# Altium integrated library CAP-CSGP_rev15b.intlib: 820 symbols (part 5 of 9)
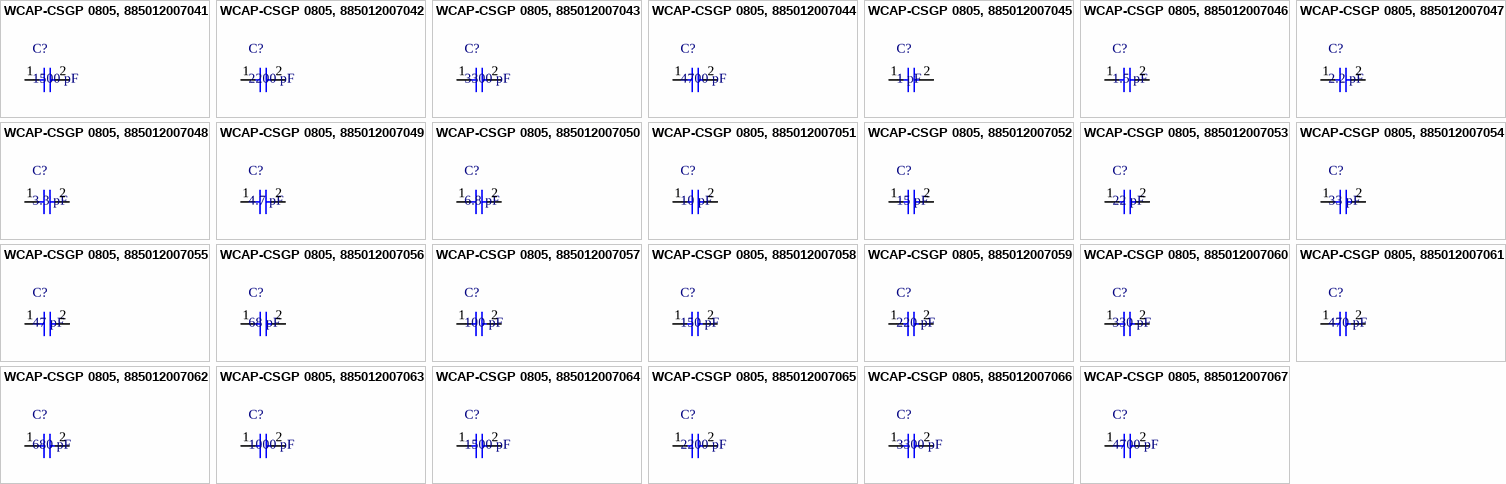
[diagram p32: symbols WCAP-CSGP 0805, 885012007041 to WCAP-CSGP 0805, 885012007067]

## WCAP-CSGP 0805, 885012007061
designator C?, comment 470 pF
WCAP-CSGP MLCC, NP0, 0805, 470 pF,50Vdc; Manufacturer: Wurth Elektronik; partNo: 885012007061; E-mail: libraries@we-online.com; ComponentLink1Description: Manufacturer; ComponentLink1URL: http://www.we-online.com; ComponentLink2Description: Datasheet; ComponentLink2URL: http://katalog.we-online.de/pbs/datasheet/885012007061.pdf; Created by: Karrer Zheng; Created Date: 3/9/2015; Capacitance: 470 pF
footprint WCAP-CSGP 0805, H=0.8mm
pins: 1, 2

## WCAP-CSGP 0805, 885012007062
designator C?, comment 680 pF
WCAP-CSGP MLCC, NP0, 0805, 680 pF,50Vdc; Manufacturer: Wurth Elektronik; partNo: 885012007062; E-mail: libraries@we-online.com; ComponentLink1Description: Manufacturer; ComponentLink1URL: http://www.we-online.com; ComponentLink2Description: Datasheet; ComponentLink2URL: http://katalog.we-online.de/pbs/datasheet/885012007062.pdf; Created by: Karrer Zheng; Created Date: 3/9/2015; Capacitance: 680 pF
footprint WCAP-CSGP 0805, H=0.8mm
pins: 1, 2

## WCAP-CSGP 0805, 885012007063
designator C?, comment 1000 pF
WCAP-CSGP MLCC, NP0, 0805, 1000 pF,50Vdc; Manufacturer: Wurth Elektronik; partNo: 885012007063; E-mail: libraries@we-online.com; ComponentLink1Description: Manufacturer; ComponentLink1URL: http://www.we-online.com; ComponentLink2Description: Datasheet; ComponentLink2URL: http://katalog.we-online.de/pbs/datasheet/885012007063.pdf; Created by: Karrer Zheng; Created Date: 3/9/2015; Capacitance: 1000 pF
footprint WCAP-CSGP 0805, H=0.8mm
pins: 1, 2

## WCAP-CSGP 0805, 885012007064
designator C?, comment 1500 pF
WCAP-CSGP MLCC, NP0, 0805, 1500 pF,50Vdc; Manufacturer: Wurth Elektronik; partNo: 885012007064; E-mail: libraries@we-online.com; ComponentLink1Description: Manufacturer; ComponentLink1URL: http://www.we-online.com; ComponentLink2Description: Datasheet; ComponentLink2URL: http://katalog.we-online.de/pbs/datasheet/885012007064.pdf; Created by: Karrer Zheng; Created Date: 3/9/2015; Capacitance: 1500 pF
footprint WCAP-CSGP 0805, H=0.8mm
pins: 1, 2

## WCAP-CSGP 0805, 885012007065
designator C?, comment 2200 pF
WCAP-CSGP MLCC, NP0, 0805, 2200 pF,50Vdc; Manufacturer: Wurth Elektronik; partNo: 885012007065; E-mail: libraries@we-online.com; ComponentLink1Description: Manufacturer; ComponentLink1URL: http://www.we-online.com; ComponentLink2Description: Datasheet; ComponentLink2URL: http://katalog.we-online.de/pbs/datasheet/885012007065.pdf; Created by: Karrer Zheng; Created Date: 3/9/2015; Capacitance: 2200 pF
footprint WCAP-CSGP 0805, H=0.8mm
pins: 1, 2

## WCAP-CSGP 0805, 885012007066
designator C?, comment 3300 pF
WCAP-CSGP MLCC, NP0, 0805, 3300 pF,50Vdc; Manufacturer: Wurth Elektronik; partNo: 885012007066; E-mail: libraries@we-online.com; ComponentLink1Description: Manufacturer; ComponentLink1URL: http://www.we-online.com; ComponentLink2Description: Datasheet; ComponentLink2URL: http://katalog.we-online.de/pbs/datasheet/885012007066.pdf; Created by: Karrer Zheng; Created Date: 3/9/2015; Capacitance: 3300 pF
footprint WCAP-CSGP 0805, H=1.25mm
pins: 1, 2

## WCAP-CSGP 0805, 885012007067
designator C?, comment 4700 pF
WCAP-CSGP MLCC, NP0, 0805, 4700 pF,50Vdc; Manufacturer: Wurth Elektronik; partNo: 885012007067; E-mail: libraries@we-online.com; ComponentLink1Description: Manufacturer; ComponentLink1URL: http://www.we-online.com; ComponentLink2Description: Datasheet; ComponentLink2URL: http://katalog.we-online.de/pbs/datasheet/885012007067.pdf; Created by: Karrer Zheng; Created Date: 3/9/2015; Capacitance: 4700 pF
footprint WCAP-CSGP 0805, H=1.25mm
pins: 1, 2


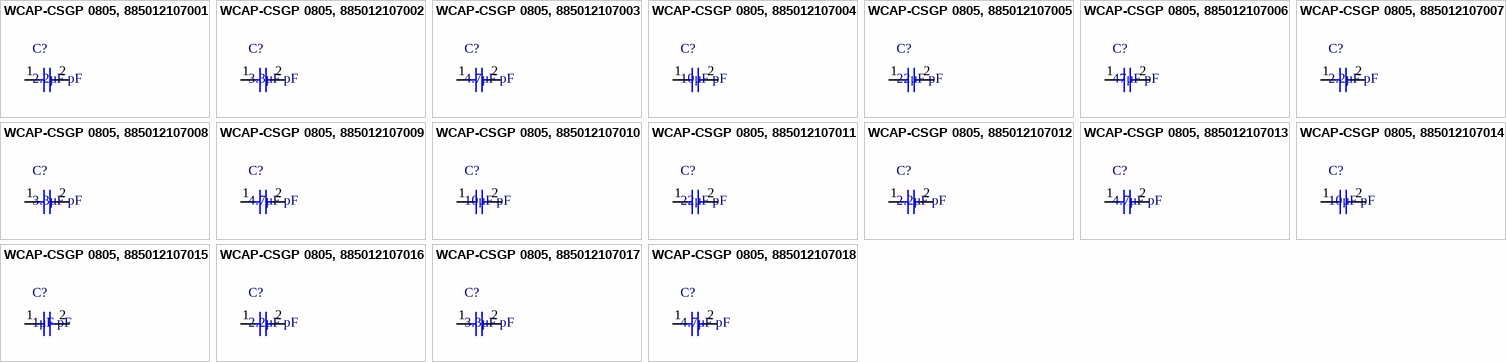
[diagram p13: symbols WCAP-CSGP 0805, 885012107001 to WCAP-CSGP 0805, 885012107018]

## WCAP-CSGP 0805, 885012107001
designator C?, comment 2.2μF pF
WCAP-CSGP MLCC, X5R, 0805, 2.2μF pF,6.3Vdc; Manufacturer: Wurth Elektronik; partNo: 885012107001; E-mail: libraries@we-online.com; ComponentLink1Description: Manufacturer; ComponentLink1URL: http://www.we-online.com; ComponentLink2Description: Datasheet; ComponentLink2URL: http://katalog.we-online.de/pbs/datasheet/885012107001.pdf; Created by: Karrer Zheng; Created Date: 3/9/2015; Capacitance: 2.2μF pF
footprint WCAP-CSGP 0805, H=1.25mm
pins: 1, 2

## WCAP-CSGP 0805, 885012107002
designator C?, comment 3.3μF pF
WCAP-CSGP MLCC, X5R, 0805, 3.3μF pF,6.3Vdc; Manufacturer: Wurth Elektronik; partNo: 885012107002; E-mail: libraries@we-online.com; ComponentLink1Description: Manufacturer; ComponentLink1URL: http://www.we-online.com; ComponentLink2Description: Datasheet; ComponentLink2URL: http://katalog.we-online.de/pbs/datasheet/885012107002.pdf; Created by: Karrer Zheng; Created Date: 3/9/2015; Capacitance: 3.3μF pF
footprint WCAP-CSGP 0805, H=1.25mm
pins: 1, 2

## WCAP-CSGP 0805, 885012107003
designator C?, comment 4.7μF pF
WCAP-CSGP MLCC, X5R, 0805, 4.7μF pF,6.3Vdc; Manufacturer: Wurth Elektronik; partNo: 885012107003; E-mail: libraries@we-online.com; ComponentLink1Description: Manufacturer; ComponentLink1URL: http://www.we-online.com; ComponentLink2Description: Datasheet; ComponentLink2URL: http://katalog.we-online.de/pbs/datasheet/885012107003.pdf; Created by: Karrer Zheng; Created Date: 3/9/2015; Capacitance: 4.7μF pF
footprint WCAP-CSGP 0805, H=1.25mm
pins: 1, 2

## WCAP-CSGP 0805, 885012107004
designator C?, comment 10μF pF
WCAP-CSGP MLCC, X5R, 0805, 10μF pF,6.3Vdc; Manufacturer: Wurth Elektronik; partNo: 885012107004; E-mail: libraries@we-online.com; ComponentLink1Description: Manufacturer; ComponentLink1URL: http://www.we-online.com; ComponentLink2Description: Datasheet; ComponentLink2URL: http://katalog.we-online.de/pbs/datasheet/885012107004.pdf; Created by: Karrer Zheng; Created Date: 3/9/2015; Capacitance: 10μF pF
footprint WCAP-CSGP 0805, H=1.25mm
pins: 1, 2

## WCAP-CSGP 0805, 885012107005
designator C?, comment 22μF pF
WCAP-CSGP MLCC, X5R, 0805, 22μF pF,6.3Vdc; Manufacturer: Wurth Elektronik; partNo: 885012107005; E-mail: libraries@we-online.com; ComponentLink1Description: Manufacturer; ComponentLink1URL: http://www.we-online.com; ComponentLink2Description: Datasheet; ComponentLink2URL: http://katalog.we-online.de/pbs/datasheet/885012107005.pdf; Created by: Karrer Zheng; Created Date: 3/9/2015; Capacitance: 22μF pF
footprint WCAP-CSGP 0805, H=1.25mm
pins: 1, 2

## WCAP-CSGP 0805, 885012107006
designator C?, comment 47μF pF
WCAP-CSGP MLCC, X5R, 0805, 47μF pF,6.3Vdc; Manufacturer: Wurth Elektronik; partNo: 885012107006; E-mail: libraries@we-online.com; ComponentLink1Description: Manufacturer; ComponentLink1URL: http://www.we-online.com; ComponentLink2Description: Datasheet; ComponentLink2URL: http://katalog.we-online.de/pbs/datasheet/885012107006.pdf; Created by: Karrer Zheng; Created Date: 3/9/2015; Capacitance: 47μF pF
footprint WCAP-CSGP 0805, H=1.25mm
pins: 1, 2

## WCAP-CSGP 0805, 885012107007
designator C?, comment 2.2μF pF
WCAP-CSGP MLCC, X5R, 0805, 2.2μF pF,10Vdc; Manufacturer: Wurth Elektronik; partNo: 885012107007; E-mail: libraries@we-online.com; ComponentLink1Description: Manufacturer; ComponentLink1URL: http://www.we-online.com; ComponentLink2Description: Datasheet; ComponentLink2URL: http://katalog.we-online.de/pbs/datasheet/885012107007.pdf; Created by: Karrer Zheng; Created Date: 3/9/2015; Capacitance: 2.2μF pF
footprint WCAP-CSGP 0805, H=1.25mm
pins: 1, 2

## WCAP-CSGP 0805, 885012107008
designator C?, comment 3.3μF pF
WCAP-CSGP MLCC, X5R, 0805, 3.3μF pF,10Vdc; Manufacturer: Wurth Elektronik; partNo: 885012107008; E-mail: libraries@we-online.com; ComponentLink1Description: Manufacturer; ComponentLink1URL: http://www.we-online.com; ComponentLink2Description: Datasheet; ComponentLink2URL: http://katalog.we-online.de/pbs/datasheet/885012107008.pdf; Created by: Karrer Zheng; Created Date: 3/9/2015; Capacitance: 3.3μF pF
footprint WCAP-CSGP 0805, H=1.25mm
pins: 1, 2

## WCAP-CSGP 0805, 885012107009
designator C?, comment 4.7μF pF
WCAP-CSGP MLCC, X5R, 0805, 4.7μF pF,10Vdc; Manufacturer: Wurth Elektronik; partNo: 885012107009; E-mail: libraries@we-online.com; ComponentLink1Description: Manufacturer; ComponentLink1URL: http://www.we-online.com; ComponentLink2Description: Datasheet; ComponentLink2URL: http://katalog.we-online.de/pbs/datasheet/885012107009.pdf; Created by: Karrer Zheng; Created Date: 3/9/2015; Capacitance: 4.7μF pF
footprint WCAP-CSGP 0805, H=1.25mm
pins: 1, 2

## WCAP-CSGP 0805, 885012107010
designator C?, comment 10μF pF
WCAP-CSGP MLCC, X5R, 0805, 10μF pF,10Vdc; Manufacturer: Wurth Elektronik; partNo: 885012107010; E-mail: libraries@we-online.com; ComponentLink1Description: Manufacturer; ComponentLink1URL: http://www.we-online.com; ComponentLink2Description: Datasheet; ComponentLink2URL: http://katalog.we-online.de/pbs/datasheet/885012107010.pdf; Created by: Karrer Zheng; Created Date: 3/9/2015; Capacitance: 10μF pF
footprint WCAP-CSGP 0805, H=1.25mm
pins: 1, 2

## WCAP-CSGP 0805, 885012107011
designator C?, comment 22μF pF
WCAP-CSGP MLCC, X5R, 0805, 22μF pF,10Vdc; Manufacturer: Wurth Elektronik; partNo: 885012107011; E-mail: libraries@we-online.com; ComponentLink1Description: Manufacturer; ComponentLink1URL: http://www.we-online.com; ComponentLink2Description: Datasheet; ComponentLink2URL: http://katalog.we-online.de/pbs/datasheet/885012107011.pdf; Created by: Karrer Zheng; Created Date: 3/9/2015; Capacitance: 22μF pF
footprint WCAP-CSGP 0805, H=1.25mm
pins: 1, 2

## WCAP-CSGP 0805, 885012107012
designator C?, comment 2.2μF pF
WCAP-CSGP MLCC, X5R, 0805, 2.2μF pF,16Vdc; Manufacturer: Wurth Elektronik; partNo: 885012107012; E-mail: libraries@we-online.com; ComponentLink1Description: Manufacturer; ComponentLink1URL: http://www.we-online.com; ComponentLink2Description: Datasheet; ComponentLink2URL: http://katalog.we-online.de/pbs/datasheet/885012107012.pdf; Created by: Karrer Zheng; Created Date: 3/9/2015; Capacitance: 2.2μF pF
footprint WCAP-CSGP 0805, H=1.25mm
pins: 1, 2

## WCAP-CSGP 0805, 885012107013
designator C?, comment 4.7μF pF
WCAP-CSGP MLCC, X5R, 0805, 4.7μF pF,16Vdc; Manufacturer: Wurth Elektronik; partNo: 885012107013; E-mail: libraries@we-online.com; ComponentLink1Description: Manufacturer; ComponentLink1URL: http://www.we-online.com; ComponentLink2Description: Datasheet; ComponentLink2URL: http://katalog.we-online.de/pbs/datasheet/885012107013.pdf; Created by: Karrer Zheng; Created Date: 3/9/2015; Capacitance: 4.7μF pF
footprint WCAP-CSGP 0805, H=1.25mm
pins: 1, 2

## WCAP-CSGP 0805, 885012107014
designator C?, comment 10μF pF
WCAP-CSGP MLCC, X5R, 0805, 10μF pF,16Vdc; Manufacturer: Wurth Elektronik; partNo: 885012107014; E-mail: libraries@we-online.com; ComponentLink1Description: Manufacturer; ComponentLink1URL: http://www.we-online.com; ComponentLink2Description: Datasheet; ComponentLink2URL: http://katalog.we-online.de/pbs/datasheet/885012107014.pdf; Created by: Karrer Zheng; Created Date: 3/9/2015; Capacitance: 10μF pF
footprint WCAP-CSGP 0805, H=1.25mm
pins: 1, 2

## WCAP-CSGP 0805, 885012107015
designator C?, comment 1μF pF
WCAP-CSGP MLCC, X5R, 0805, 1μF pF,25Vdc; Manufacturer: Wurth Elektronik; partNo: 885012107015; E-mail: libraries@we-online.com; ComponentLink1Description: Manufacturer; ComponentLink1URL: http://www.we-online.com; ComponentLink2Description: Datasheet; ComponentLink2URL: http://katalog.we-online.de/pbs/datasheet/885012107015.pdf; Created by: Karrer Zheng; Created Date: 3/9/2015; Capacitance: 1μF pF
footprint WCAP-CSGP 0805, H=1.25mm
pins: 1, 2

## WCAP-CSGP 0805, 885012107016
designator C?, comment 2.2μF pF
WCAP-CSGP MLCC, X5R, 0805, 2.2μF pF,25Vdc; Manufacturer: Wurth Elektronik; partNo: 885012107016; E-mail: libraries@we-online.com; ComponentLink1Description: Manufacturer; ComponentLink1URL: http://www.we-online.com; ComponentLink2Description: Datasheet; ComponentLink2URL: http://katalog.we-online.de/pbs/datasheet/885012107016.pdf; Created by: Karrer Zheng; Created Date: 3/9/2015; Capacitance: 2.2μF pF
footprint WCAP-CSGP 0805, H=1.25mm
pins: 1, 2

## WCAP-CSGP 0805, 885012107017
designator C?, comment 3.3μF pF
WCAP-CSGP MLCC, X5R, 0805, 3.3μF pF,25Vdc; Manufacturer: Wurth Elektronik; partNo: 885012107017; E-mail: libraries@we-online.com; ComponentLink1Description: Manufacturer; ComponentLink1URL: http://www.we-online.com; ComponentLink2Description: Datasheet; ComponentLink2URL: http://katalog.we-online.de/pbs/datasheet/885012107017.pdf; Created by: Karrer Zheng; Created Date: 3/9/2015; Capacitance: 3.3μF pF
footprint WCAP-CSGP 0805, H=1.25mm
pins: 1, 2

## WCAP-CSGP 0805, 885012107018
designator C?, comment 4.7μF pF
WCAP-CSGP MLCC, X5R, 0805, 4.7μF pF,25Vdc; Manufacturer: Wurth Elektronik; partNo: 885012107018; E-mail: libraries@we-online.com; ComponentLink1Description: Manufacturer; ComponentLink1URL: http://www.we-online.com; ComponentLink2Description: Datasheet; ComponentLink2URL: http://katalog.we-online.de/pbs/datasheet/885012107018.pdf; Created by: Karrer Zheng; Created Date: 3/9/2015; Capacitance: 4.7μF pF
footprint WCAP-CSGP 0805, H=1.25mm
pins: 1, 2


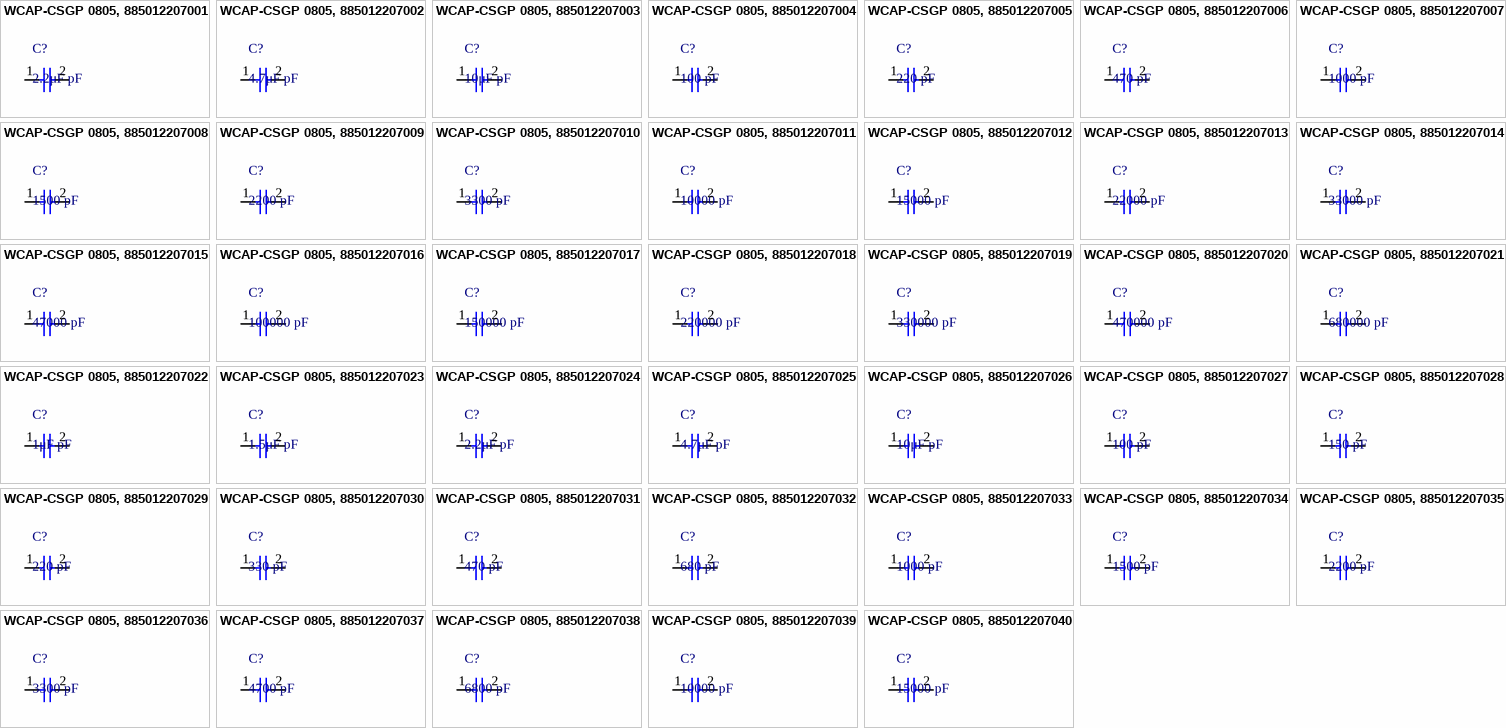
[diagram p14: symbols WCAP-CSGP 0805, 885012207001 to WCAP-CSGP 0805, 885012207040]

## WCAP-CSGP 0805, 885012207001
designator C?, comment 2.2μF pF
WCAP-CSGP MLCC, X7R, 0805, 2.2μF pF,6.3Vdc; Manufacturer: Wurth Elektronik; partNo: 885012207001; E-mail: libraries@we-online.com; ComponentLink1Description: Manufacturer; ComponentLink1URL: http://www.we-online.com; ComponentLink2Description: Datasheet; ComponentLink2URL: http://katalog.we-online.de/pbs/datasheet/885012207001.pdf; Created by: Karrer Zheng; Created Date: 3/9/2015; Capacitance: 2.2μF pF
footprint WCAP-CSGP 0805, H=1.25mm
pins: 1, 2

## WCAP-CSGP 0805, 885012207002
designator C?, comment 4.7μF pF
WCAP-CSGP MLCC, X7R, 0805, 4.7μF pF,6.3Vdc; Manufacturer: Wurth Elektronik; partNo: 885012207002; E-mail: libraries@we-online.com; ComponentLink1Description: Manufacturer; ComponentLink1URL: http://www.we-online.com; ComponentLink2Description: Datasheet; ComponentLink2URL: http://katalog.we-online.de/pbs/datasheet/885012207002.pdf; Created by: Karrer Zheng; Created Date: 3/9/2015; Capacitance: 4.7μF pF
footprint WCAP-CSGP 0805, H=1.25mm
pins: 1, 2

## WCAP-CSGP 0805, 885012207003
designator C?, comment 10μF pF
WCAP-CSGP MLCC, X7R, 0805, 10μF pF,6.3Vdc; Manufacturer: Wurth Elektronik; partNo: 885012207003; E-mail: libraries@we-online.com; ComponentLink1Description: Manufacturer; ComponentLink1URL: http://www.we-online.com; ComponentLink2Description: Datasheet; ComponentLink2URL: http://katalog.we-online.de/pbs/datasheet/885012207003.pdf; Created by: Karrer Zheng; Created Date: 3/9/2015; Capacitance: 10μF pF
footprint WCAP-CSGP 0805, H=1.25mm
pins: 1, 2

## WCAP-CSGP 0805, 885012207004
designator C?, comment 100 pF
WCAP-CSGP MLCC, X7R, 0805, 100 pF,10Vdc; Manufacturer: Wurth Elektronik; partNo: 885012207004; E-mail: libraries@we-online.com; ComponentLink1Description: Manufacturer; ComponentLink1URL: http://www.we-online.com; ComponentLink2Description: Datasheet; ComponentLink2URL: http://katalog.we-online.de/pbs/datasheet/885012207004.pdf; Created by: Karrer Zheng; Created Date: 3/9/2015; Capacitance: 100 pF
footprint WCAP-CSGP 0805, H=0.8mm
pins: 1, 2

## WCAP-CSGP 0805, 885012207005
designator C?, comment 220 pF
WCAP-CSGP MLCC, X7R, 0805, 220 pF,10Vdc; Manufacturer: Wurth Elektronik; partNo: 885012207005; E-mail: libraries@we-online.com; ComponentLink1Description: Manufacturer; ComponentLink1URL: http://www.we-online.com; ComponentLink2Description: Datasheet; ComponentLink2URL: http://katalog.we-online.de/pbs/datasheet/885012207005.pdf; Created by: Karrer Zheng; Created Date: 3/9/2015; Capacitance: 220 pF
footprint WCAP-CSGP 0805, H=0.8mm
pins: 1, 2

## WCAP-CSGP 0805, 885012207006
designator C?, comment 470 pF
WCAP-CSGP MLCC, X7R, 0805, 470 pF,10Vdc; Manufacturer: Wurth Elektronik; partNo: 885012207006; E-mail: libraries@we-online.com; ComponentLink1Description: Manufacturer; ComponentLink1URL: http://www.we-online.com; ComponentLink2Description: Datasheet; ComponentLink2URL: http://katalog.we-online.de/pbs/datasheet/885012207006.pdf; Created by: Karrer Zheng; Created Date: 3/9/2015; Capacitance: 470 pF
footprint WCAP-CSGP 0805, H=0.8mm
pins: 1, 2

## WCAP-CSGP 0805, 885012207007
designator C?, comment 1000 pF
WCAP-CSGP MLCC, X7R, 0805, 1000 pF,10Vdc; Manufacturer: Wurth Elektronik; partNo: 885012207007; E-mail: libraries@we-online.com; ComponentLink1Description: Manufacturer; ComponentLink1URL: http://www.we-online.com; ComponentLink2Description: Datasheet; ComponentLink2URL: http://katalog.we-online.de/pbs/datasheet/885012207007.pdf; Created by: Karrer Zheng; Created Date: 3/9/2015; Capacitance: 1000 pF
footprint WCAP-CSGP 0805, H=0.8mm
pins: 1, 2

## WCAP-CSGP 0805, 885012207008
designator C?, comment 1500 pF
WCAP-CSGP MLCC, X7R, 0805, 1500 pF,10Vdc; Manufacturer: Wurth Elektronik; partNo: 885012207008; E-mail: libraries@we-online.com; ComponentLink1Description: Manufacturer; ComponentLink1URL: http://www.we-online.com; ComponentLink2Description: Datasheet; ComponentLink2URL: http://katalog.we-online.de/pbs/datasheet/885012207008.pdf; Created by: Karrer Zheng; Created Date: 3/9/2015; Capacitance: 1500 pF
footprint WCAP-CSGP 0805, H=0.8mm
pins: 1, 2

## WCAP-CSGP 0805, 885012207009
designator C?, comment 2200 pF
WCAP-CSGP MLCC, X7R, 0805, 2200 pF,10Vdc; Manufacturer: Wurth Elektronik; partNo: 885012207009; E-mail: libraries@we-online.com; ComponentLink1Description: Manufacturer; ComponentLink1URL: http://www.we-online.com; ComponentLink2Description: Datasheet; ComponentLink2URL: http://katalog.we-online.de/pbs/datasheet/885012207009.pdf; Created by: Karrer Zheng; Created Date: 3/9/2015; Capacitance: 2200 pF
footprint WCAP-CSGP 0805, H=0.8mm
pins: 1, 2

## WCAP-CSGP 0805, 885012207010
designator C?, comment 3300 pF
WCAP-CSGP MLCC, X7R, 0805, 3300 pF,10Vdc; Manufacturer: Wurth Elektronik; partNo: 885012207010; E-mail: libraries@we-online.com; ComponentLink1Description: Manufacturer; ComponentLink1URL: http://www.we-online.com; ComponentLink2Description: Datasheet; ComponentLink2URL: http://katalog.we-online.de/pbs/datasheet/885012207010.pdf; Created by: Karrer Zheng; Created Date: 3/9/2015; Capacitance: 3300 pF
footprint WCAP-CSGP 0805, H=0.8mm
pins: 1, 2

## WCAP-CSGP 0805, 885012207011
designator C?, comment 10000 pF
WCAP-CSGP MLCC, X7R, 0805, 10000 pF,10Vdc; Manufacturer: Wurth Elektronik; partNo: 885012207011; E-mail: libraries@we-online.com; ComponentLink1Description: Manufacturer; ComponentLink1URL: http://www.we-online.com; ComponentLink2Description: Datasheet; ComponentLink2URL: http://katalog.we-online.de/pbs/datasheet/885012207011.pdf; Created by: Karrer Zheng; Created Date: 3/9/2015; Capacitance: 10000 pF
footprint WCAP-CSGP 0805, H=0.8mm
pins: 1, 2

## WCAP-CSGP 0805, 885012207012
designator C?, comment 15000 pF
WCAP-CSGP MLCC, X7R, 0805, 15000 pF,10Vdc; Manufacturer: Wurth Elektronik; partNo: 885012207012; E-mail: libraries@we-online.com; ComponentLink1Description: Manufacturer; ComponentLink1URL: http://www.we-online.com; ComponentLink2Description: Datasheet; ComponentLink2URL: http://katalog.we-online.de/pbs/datasheet/885012207012.pdf; Created by: Karrer Zheng; Created Date: 3/9/2015; Capacitance: 15000 pF
footprint WCAP-CSGP 0805, H=0.8mm
pins: 1, 2

## WCAP-CSGP 0805, 885012207013
designator C?, comment 22000 pF
WCAP-CSGP MLCC, X7R, 0805, 22000 pF,10Vdc; Manufacturer: Wurth Elektronik; partNo: 885012207013; E-mail: libraries@we-online.com; ComponentLink1Description: Manufacturer; ComponentLink1URL: http://www.we-online.com; ComponentLink2Description: Datasheet; ComponentLink2URL: http://katalog.we-online.de/pbs/datasheet/885012207013.pdf; Created by: Karrer Zheng; Created Date: 3/9/2015; Capacitance: 22000 pF
footprint WCAP-CSGP 0805, H=0.8mm
pins: 1, 2

## WCAP-CSGP 0805, 885012207014
designator C?, comment 33000 pF
WCAP-CSGP MLCC, X7R, 0805, 33000 pF,10Vdc; Manufacturer: Wurth Elektronik; partNo: 885012207014; E-mail: libraries@we-online.com; ComponentLink1Description: Manufacturer; ComponentLink1URL: http://www.we-online.com; ComponentLink2Description: Datasheet; ComponentLink2URL: http://katalog.we-online.de/pbs/datasheet/885012207014.pdf; Created by: Karrer Zheng; Created Date: 3/9/2015; Capacitance: 33000 pF
footprint WCAP-CSGP 0805, H=0.8mm
pins: 1, 2

## WCAP-CSGP 0805, 885012207015
designator C?, comment 47000 pF
WCAP-CSGP MLCC, X7R, 0805, 47000 pF,10Vdc; Manufacturer: Wurth Elektronik; partNo: 885012207015; E-mail: libraries@we-online.com; ComponentLink1Description: Manufacturer; ComponentLink1URL: http://www.we-online.com; ComponentLink2Description: Datasheet; ComponentLink2URL: http://katalog.we-online.de/pbs/datasheet/885012207015.pdf; Created by: Karrer Zheng; Created Date: 3/9/2015; Capacitance: 47000 pF
footprint WCAP-CSGP 0805, H=0.8mm
pins: 1, 2

## WCAP-CSGP 0805, 885012207016
designator C?, comment 100000 pF
WCAP-CSGP MLCC, X7R, 0805, 100000 pF,10Vdc; Manufacturer: Wurth Elektronik; partNo: 885012207016; E-mail: libraries@we-online.com; ComponentLink1Description: Manufacturer; ComponentLink1URL: http://www.we-online.com; ComponentLink2Description: Datasheet; ComponentLink2URL: http://katalog.we-online.de/pbs/datasheet/885012207016.pdf; Created by: Karrer Zheng; Created Date: 3/9/2015; Capacitance: 100000 pF
footprint WCAP-CSGP 0805, H=0.8mm
pins: 1, 2

## WCAP-CSGP 0805, 885012207017
designator C?, comment 150000 pF
WCAP-CSGP MLCC, X7R, 0805, 150000 pF,10Vdc; Manufacturer: Wurth Elektronik; partNo: 885012207017; E-mail: libraries@we-online.com; ComponentLink1Description: Manufacturer; ComponentLink1URL: http://www.we-online.com; ComponentLink2Description: Datasheet; ComponentLink2URL: http://katalog.we-online.de/pbs/datasheet/885012207017.pdf; Created by: Karrer Zheng; Created Date: 3/9/2015; Capacitance: 150000 pF
footprint WCAP-CSGP 0805, H=1.25mm
pins: 1, 2

## WCAP-CSGP 0805, 885012207018
designator C?, comment 220000 pF
WCAP-CSGP MLCC, X7R, 0805, 220000 pF,10Vdc; Manufacturer: Wurth Elektronik; partNo: 885012207018; E-mail: libraries@we-online.com; ComponentLink1Description: Manufacturer; ComponentLink1URL: http://www.we-online.com; ComponentLink2Description: Datasheet; ComponentLink2URL: http://katalog.we-online.de/pbs/datasheet/885012207018.pdf; Created by: Karrer Zheng; Created Date: 3/9/2015; Capacitance: 220000 pF
footprint WCAP-CSGP 0805, H=1.25mm
pins: 1, 2

## WCAP-CSGP 0805, 885012207019
designator C?, comment 330000 pF
WCAP-CSGP MLCC, X7R, 0805, 330000 pF,10Vdc; Manufacturer: Wurth Elektronik; partNo: 885012207019; E-mail: libraries@we-online.com; ComponentLink1Description: Manufacturer; ComponentLink1URL: http://www.we-online.com; ComponentLink2Description: Datasheet; ComponentLink2URL: http://katalog.we-online.de/pbs/datasheet/885012207019.pdf; Created by: Karrer Zheng; Created Date: 3/9/2015; Capacitance: 330000 pF
footprint WCAP-CSGP 0805, H=1.25mm
pins: 1, 2

## WCAP-CSGP 0805, 885012207020
designator C?, comment 470000 pF
WCAP-CSGP MLCC, X7R, 0805, 470000 pF,10Vdc; Manufacturer: Wurth Elektronik; partNo: 885012207020; E-mail: libraries@we-online.com; ComponentLink1Description: Manufacturer; ComponentLink1URL: http://www.we-online.com; ComponentLink2Description: Datasheet; ComponentLink2URL: http://katalog.we-online.de/pbs/datasheet/885012207020.pdf; Created by: Karrer Zheng; Created Date: 3/9/2015; Capacitance: 470000 pF
footprint WCAP-CSGP 0805, H=1.25mm
pins: 1, 2

## WCAP-CSGP 0805, 885012207021
designator C?, comment 680000 pF
WCAP-CSGP MLCC, X7R, 0805, 680000 pF,10Vdc; Manufacturer: Wurth Elektronik; partNo: 885012207021; E-mail: libraries@we-online.com; ComponentLink1Description: Manufacturer; ComponentLink1URL: http://www.we-online.com; ComponentLink2Description: Datasheet; ComponentLink2URL: http://katalog.we-online.de/pbs/datasheet/885012207021.pdf; Created by: Karrer Zheng; Created Date: 3/9/2015; Capacitance: 680000 pF
footprint WCAP-CSGP 0805, H=1.25mm
pins: 1, 2

## WCAP-CSGP 0805, 885012207022
designator C?, comment 1μF pF
WCAP-CSGP MLCC, X7R, 0805, 1μF pF,10Vdc; Manufacturer: Wurth Elektronik; partNo: 885012207022; E-mail: libraries@we-online.com; ComponentLink1Description: Manufacturer; ComponentLink1URL: http://www.we-online.com; ComponentLink2Description: Datasheet; ComponentLink2URL: http://katalog.we-online.de/pbs/datasheet/885012207022.pdf; Created by: Karrer Zheng; Created Date: 3/9/2015; Capacitance: 1μF pF
footprint WCAP-CSGP 0805, H=1.25mm
pins: 1, 2

## WCAP-CSGP 0805, 885012207023
designator C?, comment 1.5μF pF
WCAP-CSGP MLCC, X7R, 0805, 1.5μF pF,10Vdc; Manufacturer: Wurth Elektronik; partNo: 885012207023; E-mail: libraries@we-online.com; ComponentLink1Description: Manufacturer; ComponentLink1URL: http://www.we-online.com; ComponentLink2Description: Datasheet; ComponentLink2URL: http://katalog.we-online.de/pbs/datasheet/885012207023.pdf; Created by: Karrer Zheng; Created Date: 3/9/2015; Capacitance: 1.5μF pF
footprint WCAP-CSGP 0805, H=1.25mm
pins: 1, 2

## WCAP-CSGP 0805, 885012207024
designator C?, comment 2.2μF pF
WCAP-CSGP MLCC, X7R, 0805, 2.2μF pF,10Vdc; Manufacturer: Wurth Elektronik; partNo: 885012207024; E-mail: libraries@we-online.com; ComponentLink1Description: Manufacturer; ComponentLink1URL: http://www.we-online.com; ComponentLink2Description: Datasheet; ComponentLink2URL: http://katalog.we-online.de/pbs/datasheet/885012207024.pdf; Created by: Karrer Zheng; Created Date: 3/9/2015; Capacitance: 2.2μF pF
footprint WCAP-CSGP 0805, H=1.25mm
pins: 1, 2

## WCAP-CSGP 0805, 885012207025
designator C?, comment 4.7μF pF
WCAP-CSGP MLCC, X7R, 0805, 4.7μF pF,10Vdc; Manufacturer: Wurth Elektronik; partNo: 885012207025; E-mail: libraries@we-online.com; ComponentLink1Description: Manufacturer; ComponentLink1URL: http://www.we-online.com; ComponentLink2Description: Datasheet; ComponentLink2URL: http://katalog.we-online.de/pbs/datasheet/885012207025.pdf; Created by: Karrer Zheng; Created Date: 3/9/2015; Capacitance: 4.7μF pF
footprint WCAP-CSGP 0805, H=1.25mm
pins: 1, 2

## WCAP-CSGP 0805, 885012207026
designator C?, comment 10μF pF
WCAP-CSGP MLCC, X7R, 0805, 10μF pF,10Vdc; Manufacturer: Wurth Elektronik; partNo: 885012207026; E-mail: libraries@we-online.com; ComponentLink1Description: Manufacturer; ComponentLink1URL: http://www.we-online.com; ComponentLink2Description: Datasheet; ComponentLink2URL: http://katalog.we-online.de/pbs/datasheet/885012207026.pdf; Created by: Karrer Zheng; Created Date: 3/9/2015; Capacitance: 10μF pF
footprint WCAP-CSGP 0805, H=1.25mm
pins: 1, 2

## WCAP-CSGP 0805, 885012207027
designator C?, comment 100 pF
WCAP-CSGP MLCC, X7R, 0805, 100 pF,16Vdc; Manufacturer: Wurth Elektronik; partNo: 885012207027; E-mail: libraries@we-online.com; ComponentLink1Description: Manufacturer; ComponentLink1URL: http://www.we-online.com; ComponentLink2Description: Datasheet; ComponentLink2URL: http://katalog.we-online.de/pbs/datasheet/885012207027.pdf; Created by: Karrer Zheng; Created Date: 3/9/2015; Capacitance: 100 pF
footprint WCAP-CSGP 0805, H=0.8mm
pins: 1, 2

## WCAP-CSGP 0805, 885012207028
designator C?, comment 150 pF
WCAP-CSGP MLCC, X7R, 0805, 150 pF,16Vdc; Manufacturer: Wurth Elektronik; partNo: 885012207028; E-mail: libraries@we-online.com; ComponentLink1Description: Manufacturer; ComponentLink1URL: http://www.we-online.com; ComponentLink2Description: Datasheet; ComponentLink2URL: http://katalog.we-online.de/pbs/datasheet/885012207028.pdf; Created by: Karrer Zheng; Created Date: 3/9/2015; Capacitance: 150 pF
footprint WCAP-CSGP 0805, H=0.8mm
pins: 1, 2

## WCAP-CSGP 0805, 885012207029
designator C?, comment 220 pF
WCAP-CSGP MLCC, X7R, 0805, 220 pF,16Vdc; Manufacturer: Wurth Elektronik; partNo: 885012207029; E-mail: libraries@we-online.com; ComponentLink1Description: Manufacturer; ComponentLink1URL: http://www.we-online.com; ComponentLink2Description: Datasheet; ComponentLink2URL: http://katalog.we-online.de/pbs/datasheet/885012207029.pdf; Created by: Karrer Zheng; Created Date: 3/9/2015; Capacitance: 220 pF
footprint WCAP-CSGP 0805, H=0.8mm
pins: 1, 2

## WCAP-CSGP 0805, 885012207030
designator C?, comment 330 pF
WCAP-CSGP MLCC, X7R, 0805, 330 pF,16Vdc; Manufacturer: Wurth Elektronik; partNo: 885012207030; E-mail: libraries@we-online.com; ComponentLink1Description: Manufacturer; ComponentLink1URL: http://www.we-online.com; ComponentLink2Description: Datasheet; ComponentLink2URL: http://katalog.we-online.de/pbs/datasheet/885012207030.pdf; Created by: Karrer Zheng; Created Date: 3/9/2015; Capacitance: 330 pF
footprint WCAP-CSGP 0805, H=0.8mm
pins: 1, 2

## WCAP-CSGP 0805, 885012207031
designator C?, comment 470 pF
WCAP-CSGP MLCC, X7R, 0805, 470 pF,16Vdc; Manufacturer: Wurth Elektronik; partNo: 885012207031; E-mail: libraries@we-online.com; ComponentLink1Description: Manufacturer; ComponentLink1URL: http://www.we-online.com; ComponentLink2Description: Datasheet; ComponentLink2URL: http://katalog.we-online.de/pbs/datasheet/885012207031.pdf; Created by: Karrer Zheng; Created Date: 3/9/2015; Capacitance: 470 pF
footprint WCAP-CSGP 0805, H=0.8mm
pins: 1, 2

## WCAP-CSGP 0805, 885012207032
designator C?, comment 680 pF
WCAP-CSGP MLCC, X7R, 0805, 680 pF,16Vdc; Manufacturer: Wurth Elektronik; partNo: 885012207032; E-mail: libraries@we-online.com; ComponentLink1Description: Manufacturer; ComponentLink1URL: http://www.we-online.com; ComponentLink2Description: Datasheet; ComponentLink2URL: http://katalog.we-online.de/pbs/datasheet/885012207032.pdf; Created by: Karrer Zheng; Created Date: 3/9/2015; Capacitance: 680 pF
footprint WCAP-CSGP 0805, H=0.8mm
pins: 1, 2

## WCAP-CSGP 0805, 885012207033
designator C?, comment 1000 pF
WCAP-CSGP MLCC, X7R, 0805, 1000 pF,16Vdc; Manufacturer: Wurth Elektronik; partNo: 885012207033; E-mail: libraries@we-online.com; ComponentLink1Description: Manufacturer; ComponentLink1URL: http://www.we-online.com; ComponentLink2Description: Datasheet; ComponentLink2URL: http://katalog.we-online.de/pbs/datasheet/885012207033.pdf; Created by: Karrer Zheng; Created Date: 3/9/2015; Capacitance: 1000 pF
footprint WCAP-CSGP 0805, H=0.8mm
pins: 1, 2

## WCAP-CSGP 0805, 885012207034
designator C?, comment 1500 pF
WCAP-CSGP MLCC, X7R, 0805, 1500 pF,16Vdc; Manufacturer: Wurth Elektronik; partNo: 885012207034; E-mail: libraries@we-online.com; ComponentLink1Description: Manufacturer; ComponentLink1URL: http://www.we-online.com; ComponentLink2Description: Datasheet; ComponentLink2URL: http://katalog.we-online.de/pbs/datasheet/885012207034.pdf; Created by: Karrer Zheng; Created Date: 3/9/2015; Capacitance: 1500 pF
footprint WCAP-CSGP 0805, H=0.8mm
pins: 1, 2

## WCAP-CSGP 0805, 885012207035
designator C?, comment 2200 pF
WCAP-CSGP MLCC, X7R, 0805, 2200 pF,16Vdc; Manufacturer: Wurth Elektronik; partNo: 885012207035; E-mail: libraries@we-online.com; ComponentLink1Description: Manufacturer; ComponentLink1URL: http://www.we-online.com; ComponentLink2Description: Datasheet; ComponentLink2URL: http://katalog.we-online.de/pbs/datasheet/885012207035.pdf; Created by: Karrer Zheng; Created Date: 3/9/2015; Capacitance: 2200 pF
footprint WCAP-CSGP 0805, H=0.8mm
pins: 1, 2

## WCAP-CSGP 0805, 885012207036
designator C?, comment 3300 pF
WCAP-CSGP MLCC, X7R, 0805, 3300 pF,16Vdc; Manufacturer: Wurth Elektronik; partNo: 885012207036; E-mail: libraries@we-online.com; ComponentLink1Description: Manufacturer; ComponentLink1URL: http://www.we-online.com; ComponentLink2Description: Datasheet; ComponentLink2URL: http://katalog.we-online.de/pbs/datasheet/885012207036.pdf; Created by: Karrer Zheng; Created Date: 3/9/2015; Capacitance: 3300 pF
footprint WCAP-CSGP 0805, H=0.8mm
pins: 1, 2

## WCAP-CSGP 0805, 885012207037
designator C?, comment 4700 pF
WCAP-CSGP MLCC, X7R, 0805, 4700 pF,16Vdc; Manufacturer: Wurth Elektronik; partNo: 885012207037; E-mail: libraries@we-online.com; ComponentLink1Description: Manufacturer; ComponentLink1URL: http://www.we-online.com; ComponentLink2Description: Datasheet; ComponentLink2URL: http://katalog.we-online.de/pbs/datasheet/885012207037.pdf; Created by: Karrer Zheng; Created Date: 3/9/2015; Capacitance: 4700 pF
footprint WCAP-CSGP 0805, H=0.8mm
pins: 1, 2

## WCAP-CSGP 0805, 885012207038
designator C?, comment 6800 pF
WCAP-CSGP MLCC, X7R, 0805, 6800 pF,16Vdc; Manufacturer: Wurth Elektronik; partNo: 885012207038; E-mail: libraries@we-online.com; ComponentLink1Description: Manufacturer; ComponentLink1URL: http://www.we-online.com; ComponentLink2Description: Datasheet; ComponentLink2URL: http://katalog.we-online.de/pbs/datasheet/885012207038.pdf; Created by: Karrer Zheng; Created Date: 3/9/2015; Capacitance: 6800 pF
footprint WCAP-CSGP 0805, H=0.8mm
pins: 1, 2

## WCAP-CSGP 0805, 885012207039
designator C?, comment 10000 pF
WCAP-CSGP MLCC, X7R, 0805, 10000 pF,16Vdc; Manufacturer: Wurth Elektronik; partNo: 885012207039; E-mail: libraries@we-online.com; ComponentLink1Description: Manufacturer; ComponentLink1URL: http://www.we-online.com; ComponentLink2Description: Datasheet; ComponentLink2URL: http://katalog.we-online.de/pbs/datasheet/885012207039.pdf; Created by: Karrer Zheng; Created Date: 3/9/2015; Capacitance: 10000 pF
footprint WCAP-CSGP 0805, H=0.8mm
pins: 1, 2

## WCAP-CSGP 0805, 885012207040
designator C?, comment 15000 pF
WCAP-CSGP MLCC, X7R, 0805, 15000 pF,16Vdc; Manufacturer: Wurth Elektronik; partNo: 885012207040; E-mail: libraries@we-online.com; ComponentLink1Description: Manufacturer; ComponentLink1URL: http://www.we-online.com; ComponentLink2Description: Datasheet; ComponentLink2URL: http://katalog.we-online.de/pbs/datasheet/885012207040.pdf; Created by: Karrer Zheng; Created Date: 3/9/2015; Capacitance: 15000 pF
footprint WCAP-CSGP 0805, H=0.8mm
pins: 1, 2

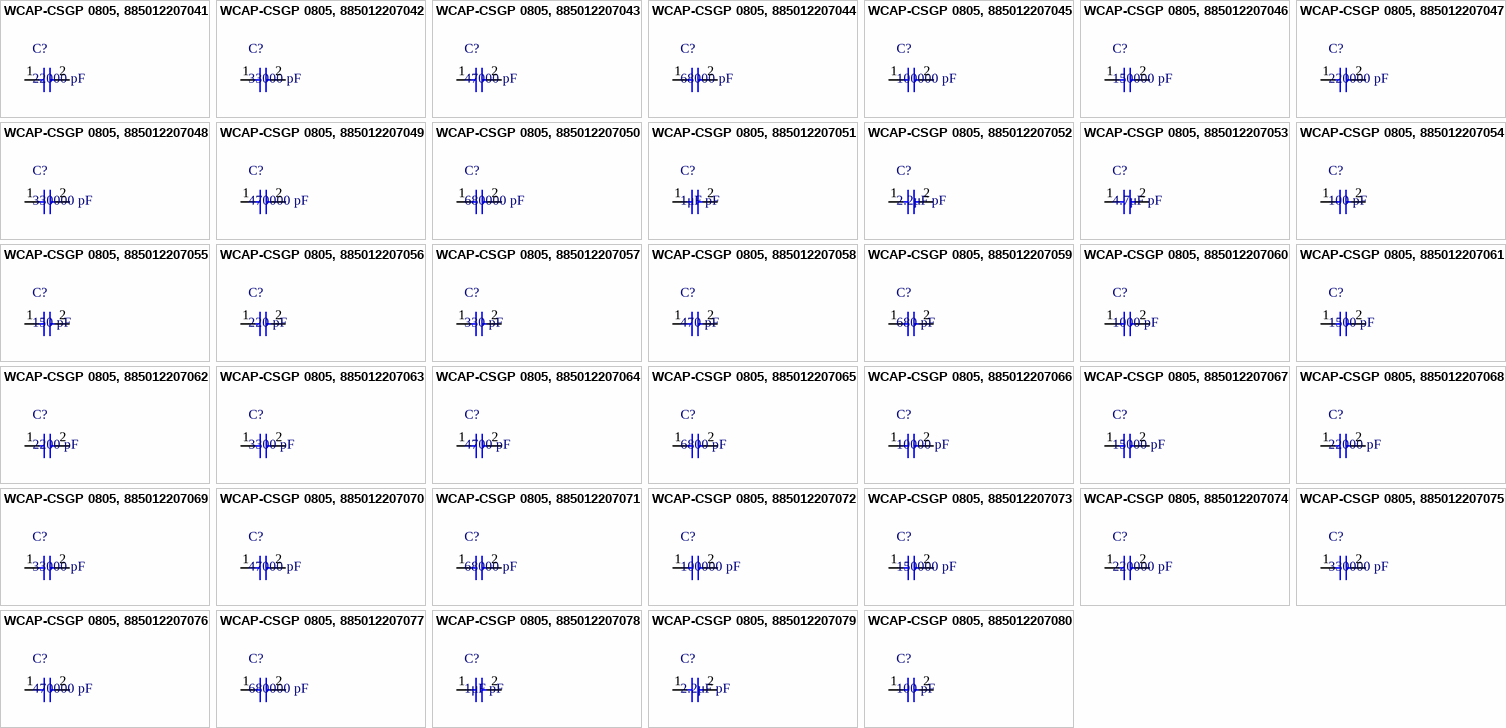
[diagram p15: symbols WCAP-CSGP 0805, 885012207041 to WCAP-CSGP 0805, 885012207080]

## WCAP-CSGP 0805, 885012207041
designator C?, comment 22000 pF
WCAP-CSGP MLCC, X7R, 0805, 22000 pF,16Vdc; Manufacturer: Wurth Elektronik; partNo: 885012207041; E-mail: libraries@we-online.com; ComponentLink1Description: Manufacturer; ComponentLink1URL: http://www.we-online.com; ComponentLink2Description: Datasheet; ComponentLink2URL: http://katalog.we-online.de/pbs/datasheet/885012207041.pdf; Created by: Karrer Zheng; Created Date: 3/9/2015; Capacitance: 22000 pF
footprint WCAP-CSGP 0805, H=0.8mm
pins: 1, 2

## WCAP-CSGP 0805, 885012207042
designator C?, comment 33000 pF
WCAP-CSGP MLCC, X7R, 0805, 33000 pF,16Vdc; Manufacturer: Wurth Elektronik; partNo: 885012207042; E-mail: libraries@we-online.com; ComponentLink1Description: Manufacturer; ComponentLink1URL: http://www.we-online.com; ComponentLink2Description: Datasheet; ComponentLink2URL: http://katalog.we-online.de/pbs/datasheet/885012207042.pdf; Created by: Karrer Zheng; Created Date: 3/9/2015; Capacitance: 33000 pF
footprint WCAP-CSGP 0805, H=0.8mm
pins: 1, 2

## WCAP-CSGP 0805, 885012207043
designator C?, comment 47000 pF
WCAP-CSGP MLCC, X7R, 0805, 47000 pF,16Vdc; Manufacturer: Wurth Elektronik; partNo: 885012207043; E-mail: libraries@we-online.com; ComponentLink1Description: Manufacturer; ComponentLink1URL: http://www.we-online.com; ComponentLink2Description: Datasheet; ComponentLink2URL: http://katalog.we-online.de/pbs/datasheet/885012207043.pdf; Created by: Karrer Zheng; Created Date: 3/9/2015; Capacitance: 47000 pF
footprint WCAP-CSGP 0805, H=0.8mm
pins: 1, 2

## WCAP-CSGP 0805, 885012207044
designator C?, comment 68000 pF
WCAP-CSGP MLCC, X7R, 0805, 68000 pF,16Vdc; Manufacturer: Wurth Elektronik; partNo: 885012207044; E-mail: libraries@we-online.com; ComponentLink1Description: Manufacturer; ComponentLink1URL: http://www.we-online.com; ComponentLink2Description: Datasheet; ComponentLink2URL: http://katalog.we-online.de/pbs/datasheet/885012207044.pdf; Created by: Karrer Zheng; Created Date: 3/9/2015; Capacitance: 68000 pF
footprint WCAP-CSGP 0805, H=0.8mm
pins: 1, 2

## WCAP-CSGP 0805, 885012207045
designator C?, comment 100000 pF
WCAP-CSGP MLCC, X7R, 0805, 100000 pF,16Vdc; Manufacturer: Wurth Elektronik; partNo: 885012207045; E-mail: libraries@we-online.com; ComponentLink1Description: Manufacturer; ComponentLink1URL: http://www.we-online.com; ComponentLink2Description: Datasheet; ComponentLink2URL: http://katalog.we-online.de/pbs/datasheet/885012207045.pdf; Created by: Karrer Zheng; Created Date: 3/9/2015; Capacitance: 100000 pF
footprint WCAP-CSGP 0805, H=0.8mm
pins: 1, 2

## WCAP-CSGP 0805, 885012207046
designator C?, comment 150000 pF
WCAP-CSGP MLCC, X7R, 0805, 150000 pF,16Vdc; Manufacturer: Wurth Elektronik; partNo: 885012207046; E-mail: libraries@we-online.com; ComponentLink1Description: Manufacturer; ComponentLink1URL: http://www.we-online.com; ComponentLink2Description: Datasheet; ComponentLink2URL: http://katalog.we-online.de/pbs/datasheet/885012207046.pdf; Created by: Karrer Zheng; Created Date: 3/9/2015; Capacitance: 150000 pF
footprint WCAP-CSGP 0805, H=1.25mm
pins: 1, 2

## WCAP-CSGP 0805, 885012207047
designator C?, comment 220000 pF
WCAP-CSGP MLCC, X7R, 0805, 220000 pF,16Vdc; Manufacturer: Wurth Elektronik; partNo: 885012207047; E-mail: libraries@we-online.com; ComponentLink1Description: Manufacturer; ComponentLink1URL: http://www.we-online.com; ComponentLink2Description: Datasheet; ComponentLink2URL: http://katalog.we-online.de/pbs/datasheet/885012207047.pdf; Created by: Karrer Zheng; Created Date: 3/9/2015; Capacitance: 220000 pF
footprint WCAP-CSGP 0805, H=1.25mm
pins: 1, 2

## WCAP-CSGP 0805, 885012207048
designator C?, comment 330000 pF
WCAP-CSGP MLCC, X7R, 0805, 330000 pF,16Vdc; Manufacturer: Wurth Elektronik; partNo: 885012207048; E-mail: libraries@we-online.com; ComponentLink1Description: Manufacturer; ComponentLink1URL: http://www.we-online.com; ComponentLink2Description: Datasheet; ComponentLink2URL: http://katalog.we-online.de/pbs/datasheet/885012207048.pdf; Created by: Karrer Zheng; Created Date: 3/9/2015; Capacitance: 330000 pF
footprint WCAP-CSGP 0805, H=1.25mm
pins: 1, 2

## WCAP-CSGP 0805, 885012207049
designator C?, comment 470000 pF
WCAP-CSGP MLCC, X7R, 0805, 470000 pF,16Vdc; Manufacturer: Wurth Elektronik; partNo: 885012207049; E-mail: libraries@we-online.com; ComponentLink1Description: Manufacturer; ComponentLink1URL: http://www.we-online.com; ComponentLink2Description: Datasheet; ComponentLink2URL: http://katalog.we-online.de/pbs/datasheet/885012207049.pdf; Created by: Karrer Zheng; Created Date: 3/9/2015; Capacitance: 470000 pF
footprint WCAP-CSGP 0805, H=1.25mm
pins: 1, 2

## WCAP-CSGP 0805, 885012207050
designator C?, comment 680000 pF
WCAP-CSGP MLCC, X7R, 0805, 680000 pF,16Vdc; Manufacturer: Wurth Elektronik; partNo: 885012207050; E-mail: libraries@we-online.com; ComponentLink1Description: Manufacturer; ComponentLink1URL: http://www.we-online.com; ComponentLink2Description: Datasheet; ComponentLink2URL: http://katalog.we-online.de/pbs/datasheet/885012207050.pdf; Created by: Karrer Zheng; Created Date: 3/9/2015; Capacitance: 680000 pF
footprint WCAP-CSGP 0805, H=1.25mm
pins: 1, 2

## WCAP-CSGP 0805, 885012207051
designator C?, comment 1μF pF
WCAP-CSGP MLCC, X7R, 0805, 1μF pF,16Vdc; Manufacturer: Wurth Elektronik; partNo: 885012207051; E-mail: libraries@we-online.com; ComponentLink1Description: Manufacturer; ComponentLink1URL: http://www.we-online.com; ComponentLink2Description: Datasheet; ComponentLink2URL: http://katalog.we-online.de/pbs/datasheet/885012207051.pdf; Created by: Karrer Zheng; Created Date: 3/9/2015; Capacitance: 1μF pF
footprint WCAP-CSGP 0805, H=1.25mm
pins: 1, 2

## WCAP-CSGP 0805, 885012207052
designator C?, comment 2.2μF pF
WCAP-CSGP MLCC, X7R, 0805, 2.2μF pF,16Vdc; Manufacturer: Wurth Elektronik; partNo: 885012207052; E-mail: libraries@we-online.com; ComponentLink1Description: Manufacturer; ComponentLink1URL: http://www.we-online.com; ComponentLink2Description: Datasheet; ComponentLink2URL: http://katalog.we-online.de/pbs/datasheet/885012207052.pdf; Created by: Karrer Zheng; Created Date: 3/9/2015; Capacitance: 2.2μF pF
footprint WCAP-CSGP 0805, H=1.25mm
pins: 1, 2

## WCAP-CSGP 0805, 885012207053
designator C?, comment 4.7μF pF
WCAP-CSGP MLCC, X7R, 0805, 4.7μF pF,16Vdc; Manufacturer: Wurth Elektronik; partNo: 885012207053; E-mail: libraries@we-online.com; ComponentLink1Description: Manufacturer; ComponentLink1URL: http://www.we-online.com; ComponentLink2Description: Datasheet; ComponentLink2URL: http://katalog.we-online.de/pbs/datasheet/885012207053.pdf; Created by: Karrer Zheng; Created Date: 3/9/2015; Capacitance: 4.7μF pF
footprint WCAP-CSGP 0805, H=1.25mm
pins: 1, 2

## WCAP-CSGP 0805, 885012207054
designator C?, comment 100 pF
WCAP-CSGP MLCC, X7R, 0805, 100 pF,25Vdc; Manufacturer: Wurth Elektronik; partNo: 885012207054; E-mail: libraries@we-online.com; ComponentLink1Description: Manufacturer; ComponentLink1URL: http://www.we-online.com; ComponentLink2Description: Datasheet; ComponentLink2URL: http://katalog.we-online.de/pbs/datasheet/885012207054.pdf; Created by: Karrer Zheng; Created Date: 3/9/2015; Capacitance: 100 pF
footprint WCAP-CSGP 0805, H=0.8mm
pins: 1, 2

## WCAP-CSGP 0805, 885012207055
designator C?, comment 150 pF
WCAP-CSGP MLCC, X7R, 0805, 150 pF,25Vdc; Manufacturer: Wurth Elektronik; partNo: 885012207055; E-mail: libraries@we-online.com; ComponentLink1Description: Manufacturer; ComponentLink1URL: http://www.we-online.com; ComponentLink2Description: Datasheet; ComponentLink2URL: http://katalog.we-online.de/pbs/datasheet/885012207055.pdf; Created by: Karrer Zheng; Created Date: 3/9/2015; Capacitance: 150 pF
footprint WCAP-CSGP 0805, H=0.8mm
pins: 1, 2

## WCAP-CSGP 0805, 885012207056
designator C?, comment 220 pF
WCAP-CSGP MLCC, X7R, 0805, 220 pF,25Vdc; Manufacturer: Wurth Elektronik; partNo: 885012207056; E-mail: libraries@we-online.com; ComponentLink1Description: Manufacturer; ComponentLink1URL: http://www.we-online.com; ComponentLink2Description: Datasheet; ComponentLink2URL: http://katalog.we-online.de/pbs/datasheet/885012207056.pdf; Created by: Karrer Zheng; Created Date: 3/9/2015; Capacitance: 220 pF
footprint WCAP-CSGP 0805, H=0.8mm
pins: 1, 2

## WCAP-CSGP 0805, 885012207057
designator C?, comment 330 pF
WCAP-CSGP MLCC, X7R, 0805, 330 pF,25Vdc; Manufacturer: Wurth Elektronik; partNo: 885012207057; E-mail: libraries@we-online.com; ComponentLink1Description: Manufacturer; ComponentLink1URL: http://www.we-online.com; ComponentLink2Description: Datasheet; ComponentLink2URL: http://katalog.we-online.de/pbs/datasheet/885012207057.pdf; Created by: Karrer Zheng; Created Date: 3/9/2015; Capacitance: 330 pF
footprint WCAP-CSGP 0805, H=0.8mm
pins: 1, 2

## WCAP-CSGP 0805, 885012207058
designator C?, comment 470 pF
WCAP-CSGP MLCC, X7R, 0805, 470 pF,25Vdc; Manufacturer: Wurth Elektronik; partNo: 885012207058; E-mail: libraries@we-online.com; ComponentLink1Description: Manufacturer; ComponentLink1URL: http://www.we-online.com; ComponentLink2Description: Datasheet; ComponentLink2URL: http://katalog.we-online.de/pbs/datasheet/885012207058.pdf; Created by: Karrer Zheng; Created Date: 3/9/2015; Capacitance: 470 pF
footprint WCAP-CSGP 0805, H=0.8mm
pins: 1, 2

## WCAP-CSGP 0805, 885012207059
designator C?, comment 680 pF
WCAP-CSGP MLCC, X7R, 0805, 680 pF,25Vdc; Manufacturer: Wurth Elektronik; partNo: 885012207059; E-mail: libraries@we-online.com; ComponentLink1Description: Manufacturer; ComponentLink1URL: http://www.we-online.com; ComponentLink2Description: Datasheet; ComponentLink2URL: http://katalog.we-online.de/pbs/datasheet/885012207059.pdf; Created by: Karrer Zheng; Created Date: 3/9/2015; Capacitance: 680 pF
footprint WCAP-CSGP 0805, H=0.8mm
pins: 1, 2

## WCAP-CSGP 0805, 885012207060
designator C?, comment 1000 pF
WCAP-CSGP MLCC, X7R, 0805, 1000 pF,25Vdc; Manufacturer: Wurth Elektronik; partNo: 885012207060; E-mail: libraries@we-online.com; ComponentLink1Description: Manufacturer; ComponentLink1URL: http://www.we-online.com; ComponentLink2Description: Datasheet; ComponentLink2URL: http://katalog.we-online.de/pbs/datasheet/885012207060.pdf; Created by: Karrer Zheng; Created Date: 3/9/2015; Capacitance: 1000 pF
footprint WCAP-CSGP 0805, H=0.8mm
pins: 1, 2

## WCAP-CSGP 0805, 885012207061
designator C?, comment 1500 pF
WCAP-CSGP MLCC, X7R, 0805, 1500 pF,25Vdc; Manufacturer: Wurth Elektronik; partNo: 885012207061; E-mail: libraries@we-online.com; ComponentLink1Description: Manufacturer; ComponentLink1URL: http://www.we-online.com; ComponentLink2Description: Datasheet; ComponentLink2URL: http://katalog.we-online.de/pbs/datasheet/885012207061.pdf; Created by: Karrer Zheng; Created Date: 3/9/2015; Capacitance: 1500 pF
footprint WCAP-CSGP 0805, H=0.8mm
pins: 1, 2

## WCAP-CSGP 0805, 885012207062
designator C?, comment 2200 pF
WCAP-CSGP MLCC, X7R, 0805, 2200 pF,25Vdc; Manufacturer: Wurth Elektronik; partNo: 885012207062; E-mail: libraries@we-online.com; ComponentLink1Description: Manufacturer; ComponentLink1URL: http://www.we-online.com; ComponentLink2Description: Datasheet; ComponentLink2URL: http://katalog.we-online.de/pbs/datasheet/885012207062.pdf; Created by: Karrer Zheng; Created Date: 3/9/2015; Capacitance: 2200 pF
footprint WCAP-CSGP 0805, H=0.8mm
pins: 1, 2

## WCAP-CSGP 0805, 885012207063
designator C?, comment 3300 pF
WCAP-CSGP MLCC, X7R, 0805, 3300 pF,25Vdc; Manufacturer: Wurth Elektronik; partNo: 885012207063; E-mail: libraries@we-online.com; ComponentLink1Description: Manufacturer; ComponentLink1URL: http://www.we-online.com; ComponentLink2Description: Datasheet; ComponentLink2URL: http://katalog.we-online.de/pbs/datasheet/885012207063.pdf; Created by: Karrer Zheng; Created Date: 3/9/2015; Capacitance: 3300 pF
footprint WCAP-CSGP 0805, H=0.8mm
pins: 1, 2

## WCAP-CSGP 0805, 885012207064
designator C?, comment 4700 pF
WCAP-CSGP MLCC, X7R, 0805, 4700 pF,25Vdc; Manufacturer: Wurth Elektronik; partNo: 885012207064; E-mail: libraries@we-online.com; ComponentLink1Description: Manufacturer; ComponentLink1URL: http://www.we-online.com; ComponentLink2Description: Datasheet; ComponentLink2URL: http://katalog.we-online.de/pbs/datasheet/885012207064.pdf; Created by: Karrer Zheng; Created Date: 3/9/2015; Capacitance: 4700 pF
footprint WCAP-CSGP 0805, H=0.8mm
pins: 1, 2

## WCAP-CSGP 0805, 885012207065
designator C?, comment 6800 pF
WCAP-CSGP MLCC, X7R, 0805, 6800 pF,25Vdc; Manufacturer: Wurth Elektronik; partNo: 885012207065; E-mail: libraries@we-online.com; ComponentLink1Description: Manufacturer; ComponentLink1URL: http://www.we-online.com; ComponentLink2Description: Datasheet; ComponentLink2URL: http://katalog.we-online.de/pbs/datasheet/885012207065.pdf; Created by: Karrer Zheng; Created Date: 3/9/2015; Capacitance: 6800 pF
footprint WCAP-CSGP 0805, H=0.8mm
pins: 1, 2

## WCAP-CSGP 0805, 885012207066
designator C?, comment 10000 pF
WCAP-CSGP MLCC, X7R, 0805, 10000 pF,25Vdc; Manufacturer: Wurth Elektronik; partNo: 885012207066; E-mail: libraries@we-online.com; ComponentLink1Description: Manufacturer; ComponentLink1URL: http://www.we-online.com; ComponentLink2Description: Datasheet; ComponentLink2URL: http://katalog.we-online.de/pbs/datasheet/885012207066.pdf; Created by: Karrer Zheng; Created Date: 3/9/2015; Capacitance: 10000 pF
footprint WCAP-CSGP 0805, H=0.8mm
pins: 1, 2

## WCAP-CSGP 0805, 885012207067
designator C?, comment 15000 pF
WCAP-CSGP MLCC, X7R, 0805, 15000 pF,25Vdc; Manufacturer: Wurth Elektronik; partNo: 885012207067; E-mail: libraries@we-online.com; ComponentLink1Description: Manufacturer; ComponentLink1URL: http://www.we-online.com; ComponentLink2Description: Datasheet; ComponentLink2URL: http://katalog.we-online.de/pbs/datasheet/885012207067.pdf; Created by: Karrer Zheng; Created Date: 3/9/2015; Capacitance: 15000 pF
footprint WCAP-CSGP 0805, H=0.8mm
pins: 1, 2

## WCAP-CSGP 0805, 885012207068
designator C?, comment 22000 pF
WCAP-CSGP MLCC, X7R, 0805, 22000 pF,25Vdc; Manufacturer: Wurth Elektronik; partNo: 885012207068; E-mail: libraries@we-online.com; ComponentLink1Description: Manufacturer; ComponentLink1URL: http://www.we-online.com; ComponentLink2Description: Datasheet; ComponentLink2URL: http://katalog.we-online.de/pbs/datasheet/885012207068.pdf; Created by: Karrer Zheng; Created Date: 3/9/2015; Capacitance: 22000 pF
footprint WCAP-CSGP 0805, H=0.8mm
pins: 1, 2

## WCAP-CSGP 0805, 885012207069
designator C?, comment 33000 pF
WCAP-CSGP MLCC, X7R, 0805, 33000 pF,25Vdc; Manufacturer: Wurth Elektronik; partNo: 885012207069; E-mail: libraries@we-online.com; ComponentLink1Description: Manufacturer; ComponentLink1URL: http://www.we-online.com; ComponentLink2Description: Datasheet; ComponentLink2URL: http://katalog.we-online.de/pbs/datasheet/885012207069.pdf; Created by: Karrer Zheng; Created Date: 3/9/2015; Capacitance: 33000 pF
footprint WCAP-CSGP 0805, H=0.8mm
pins: 1, 2

## WCAP-CSGP 0805, 885012207070
designator C?, comment 47000 pF
WCAP-CSGP MLCC, X7R, 0805, 47000 pF,25Vdc; Manufacturer: Wurth Elektronik; partNo: 885012207070; E-mail: libraries@we-online.com; ComponentLink1Description: Manufacturer; ComponentLink1URL: http://www.we-online.com; ComponentLink2Description: Datasheet; ComponentLink2URL: http://katalog.we-online.de/pbs/datasheet/885012207070.pdf; Created by: Karrer Zheng; Created Date: 3/9/2015; Capacitance: 47000 pF
footprint WCAP-CSGP 0805, H=0.8mm
pins: 1, 2

## WCAP-CSGP 0805, 885012207071
designator C?, comment 68000 pF
WCAP-CSGP MLCC, X7R, 0805, 68000 pF,25Vdc; Manufacturer: Wurth Elektronik; partNo: 885012207071; E-mail: libraries@we-online.com; ComponentLink1Description: Manufacturer; ComponentLink1URL: http://www.we-online.com; ComponentLink2Description: Datasheet; ComponentLink2URL: http://katalog.we-online.de/pbs/datasheet/885012207071.pdf; Created by: Karrer Zheng; Created Date: 3/9/2015; Capacitance: 68000 pF
footprint WCAP-CSGP 0805, H=0.8mm
pins: 1, 2